# EAGLE library part PCIE-X8-* (library PCI Express)
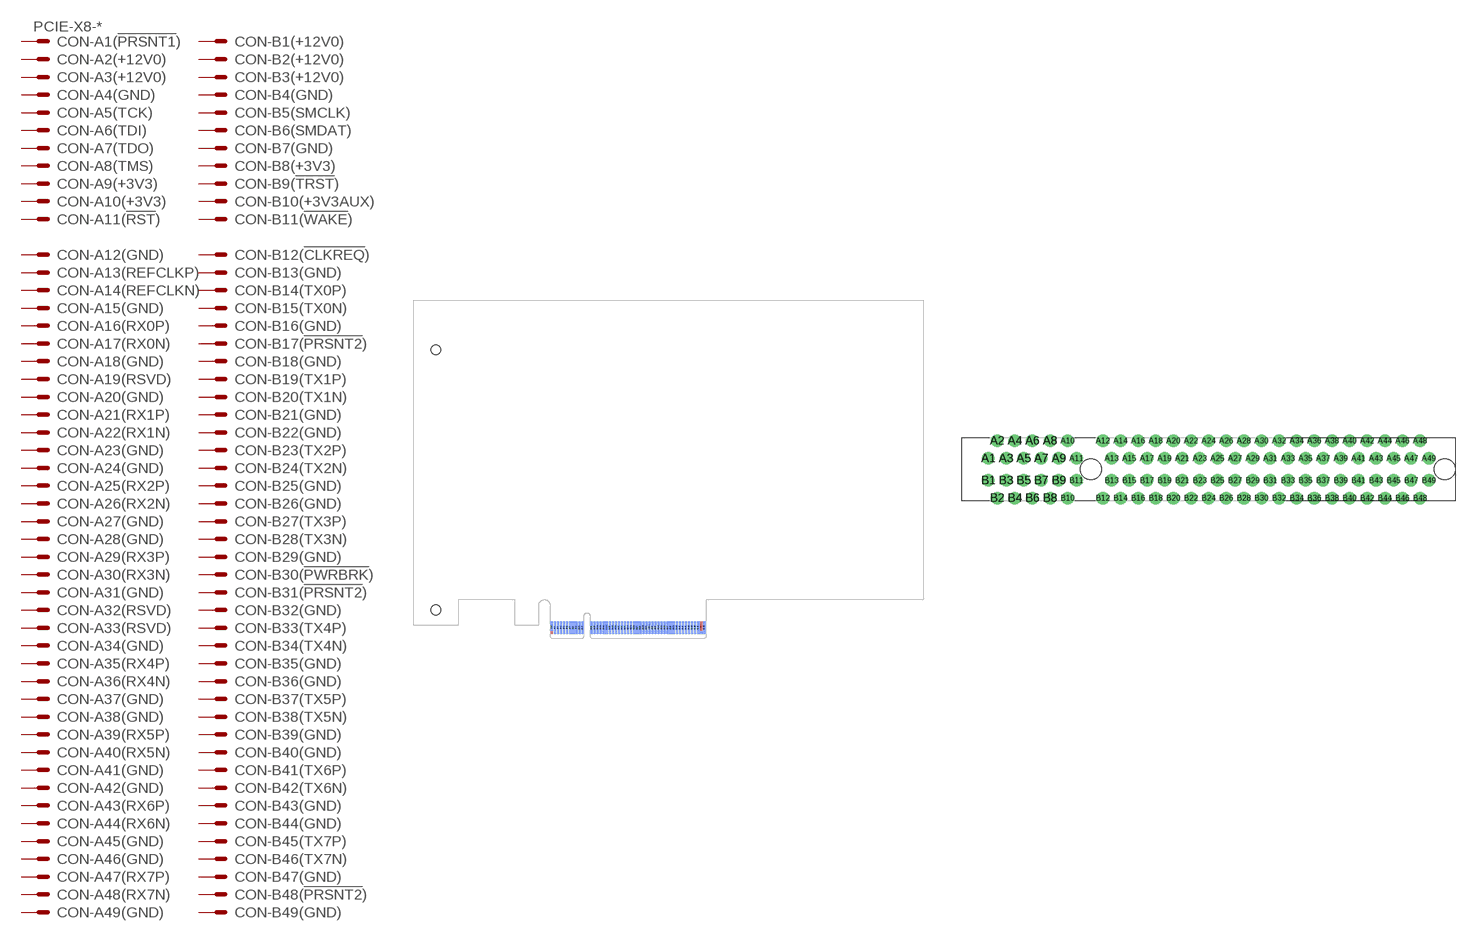
[diagram p5: symbol with the pads of PCIE-X8-EDGE; footprints PCIE-X8-EDGE, PCIE-X8-SKT]

Designator prefix CON; gates -A1(!PRSNT1!)=KV -A2(+12V0)=K -A3(+12V0)=K -A4(GND)=K -A5(TCK)=K -A6(TDI)=K -A7(TDO)=K -A8(TMS)=K -A9(+3V3)=K -A10(+3V3)=K -A11(!RST!)=K -A12(GND)=K -A13(REFCLKP)=K -A14(REFCLKN)=K -A15(GND)=K -A16(RX0P)=K -A17(RX0N)=K -A18(GND)=K -B1(+12V0)=K -B2(+12V0)=K -B3(+12V0)=K -B4(GND)=K -B5(SMCLK)=K -B6(SMDAT)=K -B7(GND)=K -B8(+3V3)=K -B9(!TRST!)=K -B10(+3V3AUX)=K -B11(!WAKE!)=K -B12(!CLKREQ!)=K -B13(GND)=K -B14(TX0P)=K -B15(TX0N)=K -B16(GND)=K -B17(!PRSNT2!)=K -B18(GND)=K -A19(RSVD)=K -A20(GND)=K -A21(RX1P)=K -A22(RX1N)=K -A23(GND)=K -A24(GND)=K -A25(RX2P)=K -A27(GND)=K -A26(RX2N)=K -A28(GND)=K -A29(RX3P)=K -A30(RX3N)=K -A31(GND)=K -A32(RSVD)=K -B19(TX1P)=K -B20(TX1N)=K -B21(GND)=K -B22(GND)=K -B23(TX2P)=K -B24(TX2N)=K -B25(GND)=K -B26(GND)=K -B27(TX3P)=K -B28(TX3N)=K -B29(GND)=K -B30(!PWRBRK!)=K -B31(!PRSNT2!)=K -B32(GND)=K -B33(TX4P)=K -B34(TX4N)=K -B35(GND)=K -B36(GND)=K -B37(TX5P)=K -B38(TX5N)=K -B39(GND)=K -B40(GND)=K -B41(TX6P)=K -B42(TX6N)=K -B43(GND)=K -B44(GND)=K -B45(TX7P)=K -B46(TX7N)=K -B47(GND)=K -B48(!PRSNT2!)=K -B49(GND)=K -A33(RSVD)=K -A34(GND)=K -A35(RX4P)=K -A36(RX4N)=K -A37(GND)=K -A38(GND)=K -A39(RX5P)=K -A40(RX5N)=K -A41(GND)=K -A42(GND)=K -A43(RX6P)=K -A44(RX6N)=K -A45(GND)=K -A46(GND)=K -A47(RX7P)=K -A48(RX7N)=K -A49(GND)=K

## PCIE-X8-EDGE  [PCIE-X8-EDGE]
A1  -A1(!PRSNT1!):S  pas
A2  -A2(+12V0):S  pas
A3  -A3(+12V0):S  pas
A4  -A4(GND):S  pas
A5  -A5(TCK):S  pas
A6  -A6(TDI):S  pas
A7  -A7(TDO):S  pas
A8  -A8(TMS):S  pas
A9  -A9(+3V3):S  pas
A10  -A10(+3V3):S  pas
A11  -A11(!RST!):S  pas
A12  -A12(GND):S  pas
A13  -A13(REFCLKP):S  pas
A14  -A14(REFCLKN):S  pas
A15  -A15(GND):S  pas
A16  -A16(RX0P):S  pas
A17  -A17(RX0N):S  pas
A18  -A18(GND):S  pas
A19  -A19(RSVD):S  pas
A20  -A20(GND):S  pas
A21  -A21(RX1P):S  pas
A22  -A22(RX1N):S  pas
A23  -A23(GND):S  pas
A24  -A24(GND):S  pas
A25  -A25(RX2P):S  pas
A26  -A26(RX2N):S  pas
A27  -A27(GND):S  pas
A28  -A28(GND):S  pas
A29  -A29(RX3P):S  pas
A30  -A30(RX3N):S  pas
A31  -A31(GND):S  pas
A32  -A32(RSVD):S  pas
A33  -A33(RSVD):S  pas
A34  -A34(GND):S  pas
A35  -A35(RX4P):S  pas
A36  -A36(RX4N):S  pas
A37  -A37(GND):S  pas
A38  -A38(GND):S  pas
A39  -A39(RX5P):S  pas
A40  -A40(RX5N):S  pas
A41  -A41(GND):S  pas
A42  -A42(GND):S  pas
A43  -A43(RX6P):S  pas
A44  -A44(RX6N):S  pas
A45  -A45(GND):S  pas
A46  -A46(GND):S  pas
A47  -A47(RX7P):S  pas
A48  -A48(RX7N):S  pas
A49  -A49(GND):S  pas
B1  -B1(+12V0):S  pas
B2  -B2(+12V0):S  pas
B3  -B3(+12V0):S  pas
B4  -B4(GND):S  pas
B5  -B5(SMCLK):S  pas
B6  -B6(SMDAT):S  pas
B7  -B7(GND):S  pas
B8  -B8(+3V3):S  pas
B9  -B9(!TRST!):S  pas
B10  -B10(+3V3AUX):S  pas
B11  -B11(!WAKE!):S  pas
B12  -B12(!CLKREQ!):S  pas
B13  -B13(GND):S  pas
B14  -B14(TX0P):S  pas
B15  -B15(TX0N):S  pas
B16  -B16(GND):S  pas
B17  -B17(!PRSNT2!):S  pas
B18  -B18(GND):S  pas
B19  -B19(TX1P):S  pas
B20  -B20(TX1N):S  pas
B21  -B21(GND):S  pas
B22  -B22(GND):S  pas
B23  -B23(TX2P):S  pas
B24  -B24(TX2N):S  pas
B25  -B25(GND):S  pas
B26  -B26(GND):S  pas
B27  -B27(TX3P):S  pas
B28  -B28(TX3N):S  pas
B29  -B29(GND):S  pas
B30  -B30(!PWRBRK!):S  pas
B31  -B31(!PRSNT2!):S  pas
B32  -B32(GND):S  pas
B33  -B33(TX4P):S  pas
B34  -B34(TX4N):S  pas
B35  -B35(GND):S  pas
B36  -B36(GND):S  pas
B37  -B37(TX5P):S  pas
B38  -B38(TX5N):S  pas
B39  -B39(GND):S  pas
B40  -B40(GND):S  pas
B41  -B41(TX6P):S  pas
B42  -B42(TX6N):S  pas
B43  -B43(GND):S  pas
B44  -B44(GND):S  pas
B45  -B45(TX7P):S  pas
B46  -B46(TX7N):S  pas
B47  -B47(GND):S  pas
B48  -B48(!PRSNT2!):S  pas
B49  -B49(GND):S  pas

## PCIE-X8-SKT  [PCIE-X8-SKT]
Pads as for PCIE-X8-EDGE

## Footprint PCIE-X8-EDGE (pad centres in mm)
PCI-E 36-way edge connector
smd 0.7 x 3.2 bottom: A1 -11.5,-4.4
smd 0.7 x 4.2 bottom: A2 -10.5,-4.9; A3 -9.5,-4.9; A4 -8.5,-4.9; A5 -7.5,-4.9; A6 -6.5,-4.9; A7 -5.5,-4.9; A8 -4.5,-4.9; A9 -3.5,-4.9; A10 -2.5,-4.9; A11 -1.5,-4.9; A12 1.5,-4.9; A13 2.5,-4.9; A14 3.5,-4.9; A15 4.5,-4.9; A16 5.5,-4.9; A17 6.5,-4.9; A18 7.5,-4.9; A19 8.5,-4.9; A20 9.5,-4.9; A21 10.5,-4.9; A22 11.5,-4.9; A23 12.5,-4.9; A24 13.5,-4.9; A25 14.5,-4.9; A26 15.5,-4.9; A27 16.5,-4.9; A28 17.5,-4.9; A29 18.5,-4.9; A30 19.5,-4.9; A31 20.5,-4.9; A32 21.5,-4.9; A33 22.5,-4.9; A34 23.5,-4.9; A35 24.5,-4.9; A36 25.5,-4.9; A37 26.5,-4.9; A38 27.5,-4.9; A39 28.5,-4.9; A40 29.5,-4.9; A41 30.5,-4.9; A42 31.5,-4.9; A43 32.5,-4.9; A44 33.5,-4.9; A45 34.5,-4.9; A46 35.5,-4.9; A47 36.5,-4.9; A48 37.5,-4.9; A49 38.5,-4.9
smd 0.7 x 4.2: B1 -11.5,-4.9; B2 -10.5,-4.9; B3 -9.5,-4.9; B4 -8.5,-4.9; B5 -7.5,-4.9; B6 -6.5,-4.9; B7 -5.5,-4.9; B8 -4.5,-4.9; B9 -3.5,-4.9; B10 -2.5,-4.9; B11 -1.5,-4.9; B12 1.5,-4.9; B13 2.5,-4.9; B14 3.5,-4.9; B15 4.5,-4.9; B16 5.5,-4.9; B18 7.5,-4.9; B19 8.5,-4.9; B20 9.5,-4.9; B21 10.5,-4.9; B22 11.5,-4.9; B23 12.5,-4.9; B24 13.5,-4.9; B25 14.5,-4.9; B26 15.5,-4.9; B27 16.5,-4.9; B28 17.5,-4.9; B29 18.5,-4.9; B30 19.5,-4.9; B32 21.5,-4.9; B33 22.5,-4.9; B34 23.5,-4.9; B35 24.5,-4.9; B36 25.5,-4.9; B37 26.5,-4.9; B38 27.5,-4.9; B39 28.5,-4.9; B40 29.5,-4.9; B41 30.5,-4.9; B42 31.5,-4.9; B43 32.5,-4.9; B44 33.5,-4.9; B45 34.5,-4.9; B46 35.5,-4.9; B47 36.5,-4.9; B49 38.5,-4.9
smd 0.7 x 3.2: B17 6.5,-4.4; B31 20.5,-4.4; B48 37.5,-4.4
hole 3.18 at -49.65,0.95
hole 3.18 at -49.65,86.35

## Footprint PCIE-X8-SKT (pad centres in mm)
PCIE-36 way socket
drill 0.7 pad 1.422: A1 -11.65,1.25; A2 -10.65,3.25; A3 -9.65,1.25; A4 -8.65,3.25; A5 -7.65,1.25; A6 -6.65,3.25; A7 -5.65,1.25; A8 -4.65,3.25; A9 -3.65,1.25; A10 -2.65,3.25; A11 -1.65,1.25; A12 1.35,3.25; A13 2.35,1.25; A14 3.35,3.25; A15 4.35,1.25; A16 5.35,3.25; A17 6.35,1.25; A18 7.35,3.25; A19 8.35,1.25; A20 9.35,3.25; A21 10.35,1.25; A22 11.35,3.25; A23 12.35,1.25; A24 13.35,3.25; A25 14.35,1.25; A26 15.35,3.25; A27 16.35,1.25; A28 17.35,3.25; A29 18.35,1.25; A30 19.35,3.25; A31 20.35,1.25; A32 21.35,3.25; A33 22.35,1.25; A34 23.35,3.25; A35 24.35,1.25; A36 25.35,3.25; A37 26.35,1.25; A38 27.35,3.25; A39 28.35,1.25; A40 29.35,3.25; A41 30.35,1.25; A42 31.35,3.25; A43 32.35,1.25; A44 33.35,3.25; A45 34.35,1.25; A46 35.35,3.25; A47 36.35,1.25; A48 37.35,3.25; A49 38.35,1.25; B1 -11.65,-1.25; B2 -10.65,-3.25; B3 -9.65,-1.25; B4 -8.65,-3.25; B5 -7.65,-1.25; B6 -6.65,-3.25; B7 -5.65,-1.25; B8 -4.65,-3.25; B9 -3.65,-1.25; B10 -2.65,-3.25; B11 -1.65,-1.25; B12 1.35,-3.25; B13 2.35,-1.25; B14 3.35,-3.25; B15 4.35,-1.25; B16 5.35,-3.25; B17 6.35,-1.25; B18 7.35,-3.25; B19 8.35,-1.25; B20 9.35,-3.25; B21 10.35,-1.25; B22 11.35,-3.25; B23 12.35,-1.25; B24 13.35,-3.25; B25 14.35,-1.25; B26 15.35,-3.25; B27 16.35,-1.25; B28 17.35,-3.25; B29 18.35,-1.25; B30 19.35,-3.25; B31 20.35,-1.25; B32 21.35,-3.25; B33 22.35,-1.25; B34 23.35,-3.25; B35 24.35,-1.25; B36 25.35,-3.25; B37 26.35,-1.25; B38 27.35,-3.25; B39 28.35,-1.25; B40 29.35,-3.25; B41 30.35,-1.25; B42 31.35,-3.25; B43 32.35,-1.25; B44 33.35,-3.25; B45 34.35,-1.25; B46 35.35,-3.25; B47 36.35,-1.25; B48 37.35,-3.25; B49 38.35,-1.25
hole 2.35 at 0,0
hole 2.35 at 40.15,0